# Altium footprint library SM_DCDC_DOSA_SMT.PcbLib: 1 footprints
Each footprint in its own frame and in the unit in brackets; x right, y up, seen from the top. Pads: shape width x height; smd on the part's side, far side on the other; paste and mask are expansions set on the pad; w line width, h text height; cw(c..) or ccw(c..) is an arc to the next point about the centre after c.
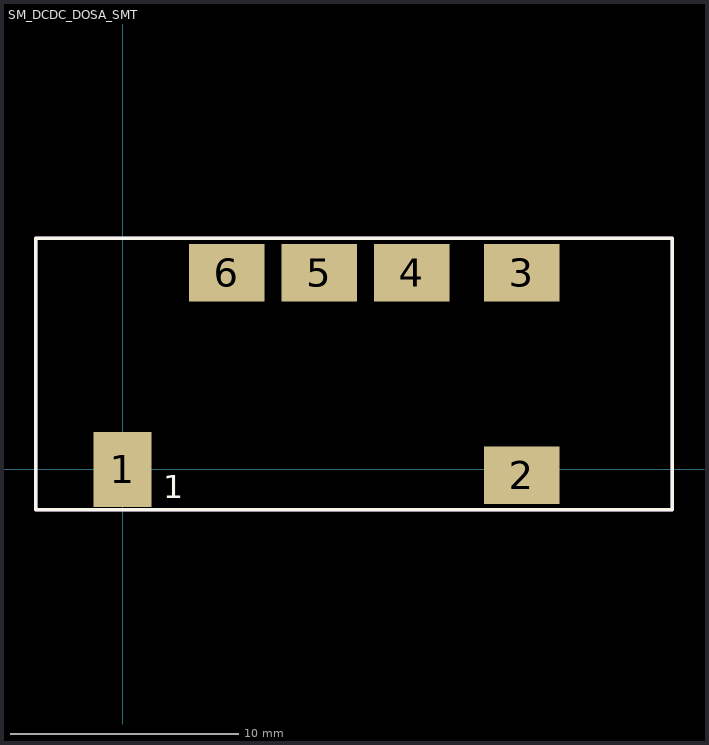
[diagram p0: the footprint, top view; thin cyan lines are the x and y axes]

## SM_DCDC_DOSA_SMT [mil] "Non-Isolated DC/DC Converter, SMT package"
height 280
pads (6):
  rect 100x130 smd: 1(0,0)
  rect 130x100 smd: 2(690,-10) 3(690,340) 4(500,340) 5(340,340) 6(180,340)
Top Overlay:
  lines w6: -150,-70 -150,400 950,400 950,-70 -150,-70
  text "1" at 70,-50 h40
Mechanical 1:
  lines w6: -150,-70 -150,400 950,400 950,-70 -150,-70
Mechanical 13:
  lines w3.94: -150,-70 -150,400 950,400 950,-70 -150,-70
Mechanical 15:
  lines w1.97: -150,-70 950,-70 950,400 -150,400 -150,-70
  lines w3.94: -20,0 20,0 ; 0,-20 0,20
3D body "mps_dcdc_oky_t3_t5_d12_a.step": height 278.98, standoff 0, extent -60,-70 760,400